# Altium schematic symbol library SW_PBSPCO.Schlib: 1 symbol
Pins are listed as number, name and electrical type; pins without a type are passive.

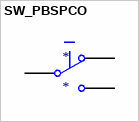
[diagram p0: symbol SW_PBSPCO]

## SW_PBSPCO
designator *
pins: COM1 COM, NC1 NC, NO1 NO